# EAGLE library part IPT007N06N (library IPT007N06N)
MOSFET N-Channel 60V 300A OptiMOS HSOF9 Infineon IPT007N06N N-channel MOSFET Transistor, 300 A, 60 V, 8-Pin HSOF Source: Datasheet <https://componentsearchengine.com/Datasheets/1/IPT007N06N.pdf>
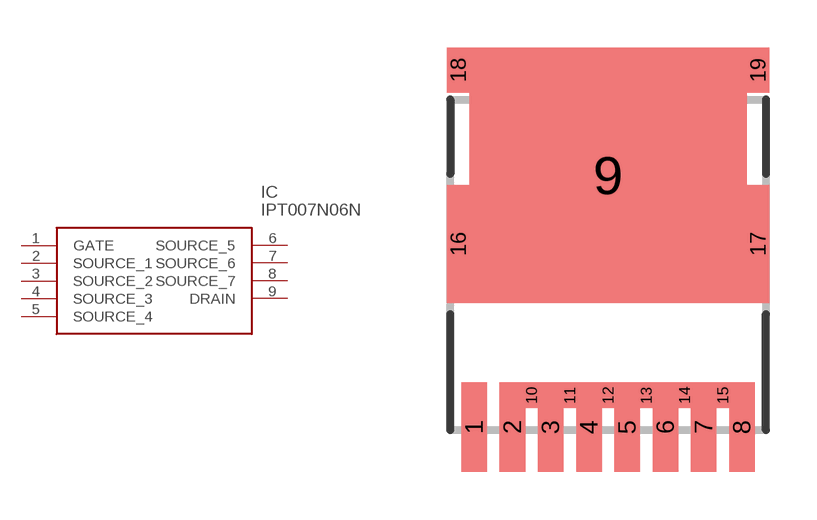
[diagram p0: symbol with the pads of PG-HSOF-8-1; footprint PG-HSOF-8-1]

Designator prefix IC

## IPT007N06N (DESCRIPTION: MOSFET N-Channel 60V 300A OptiMOS HSOF9 Infineon IPT007N06N N-channel MOSFET Transistor, 300 A, 60 V, 8-Pin HSOF; HEIGHT: mm; MANUFACTURER_NAME: Infineon; MANUFACTURER_PART_NUMBER: IPT007N06N; MOUSER_PART_NUMBER: 726-IPT007N06N; MOUSER_PRICE-STOCK: https://www.mouser.com/Search/Refine.aspx?Keyword=726-IPT007N06N)  [PG-HSOF-8-1]
1  GATE
2  SOURCE_1
3  SOURCE_2
4  SOURCE_3
5  SOURCE_4
6  SOURCE_5
7  SOURCE_6
8  SOURCE_7
9  DRAIN

## Footprint PG-HSOF-8-1 (pad centres in mm)
PG-HSOF-8-1
smd 0.8 x 2.8: 1 0.75,0.098; 2 1.95,0.098; 3 3.15,0.098; 4 4.35,0.098; 5 5.55,0.098; 6 6.75,0.098; 7 7.95,0.098; 8 9.15,0.098
smd 8.7 x 8: 9 4.95,7.998
smd 0.5 x 0.8: 10 2.55,1.098; 11 3.75,1.098; 12 4.95,1.098; 13 6.15,1.098; 14 7.35,1.098; 15 8.55,1.098
smd 0.7 x 3.7: 16 0.25,5.848; 17 9.65,5.848
smd 0.7 x 1.4: 18 0.25,11.298; 19 9.65,11.298